# Altium schematic symbol library SCH - POWER - LINEAR VREG - TI LP38503ATJ-ADJ.SchLib: 1 symbol
Pins are listed as number, name and electrical type; pins without a type are passive.

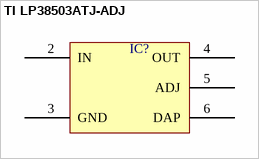
[diagram p0: symbol TI LP38503ATJ-ADJ]

## TI LP38503ATJ-ADJ
designator IC?  (value not drawn)
pins: 2 IN, 3 GND, 4 OUT, 5 ADJ, 6 DAP